# Altium schematic symbol library TL1105AF160Q.SchLib: 1 symbol
Pins are listed as number, name and electrical type; pins without a type are passive.

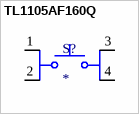
[diagram p0: symbol TL1105AF160Q]

## TL1105AF160Q
designator S?
6mm 1.4mm Round Button 50mA Straight 6mm SPST 12V Plugin,6x6mm Tactile Switches ROHS; Manufacturer: E-Switch; Mfr.Part #: TL1105AF160Q; Datasheet: https://datasheet.lcsc.com/lcsc/1809291031_E-Switch-TL1105AF160Q_C273465.pdf; Package: Plugin,6x6mm; LCSC Part#: C273465
footprint TL1105AF160Q
pins: 1, 2, 3, 4